# EAGLE library part BM78 (library KW2)
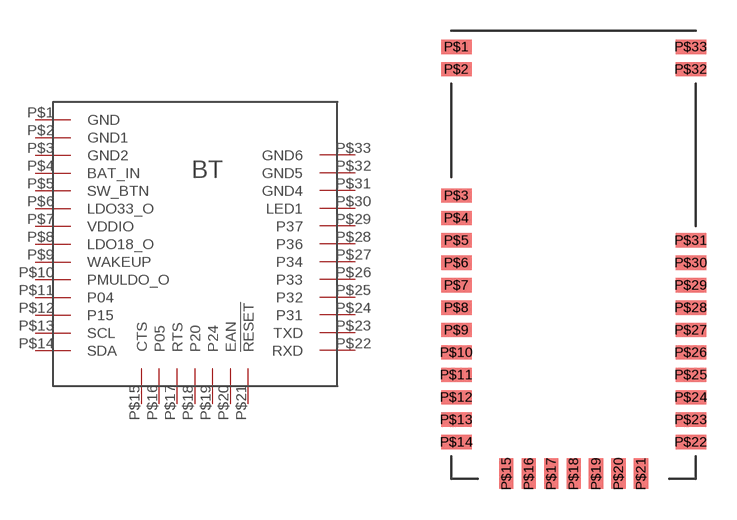
[diagram p22: symbol with the pads of BM78; footprint BM78]

Designator prefix U

## BM78  [BM78]
P$1  GND
P$2  GND1
P$3  GND2
P$4  BAT_IN
P$5  SW_BTN
P$6  LDO33_O
P$7  VDDIO
P$8  LDO18_O
P$9  WAKEUP
P$10  PMULDO_O
P$11  P04
P$12  P15
P$13  SCL
P$14  SDA
P$15  CTS
P$16  P05
P$17  RTS
P$18  P20
P$19  P24
P$20  EAN
P$21  !RESET
P$22  RXD
P$23  TXD
P$24  P31
P$25  P32
P$26  P33
P$27  P34
P$28  P36
P$29  P37
P$30  LED1
P$31  GND4
P$32  GND5
P$33  GND6

## Footprint BM78 (pad centres in mm)
smd 1.5 x 0.7: P$1 -5.75,21.2; P$2 -5.75,20.1; P$3 -5.75,13.9; P$4 -5.75,12.8; P$5 -5.75,11.7; P$6 -5.75,10.6; P$7 -5.75,9.5; P$8 -5.75,8.4; P$9 -5.75,7.3; P$10 -5.75,6.2; P$11 -5.75,5.1; P$12 -5.75,4; P$13 -5.75,2.9; P$14 -5.75,1.8; P$22 5.75,1.8; P$23 5.75,2.9; P$24 5.75,4; P$25 5.75,5.1; P$26 5.75,6.2; P$27 5.75,7.3; P$28 5.75,8.4; P$29 5.75,9.5; P$30 5.75,10.6; P$31 5.75,11.7; P$32 5.75,20.1; P$33 5.75,21.2
smd 0.7 x 1.5: P$15 -3.3,0.25; P$16 -2.2,0.25; P$17 -1.1,0.25; P$18 0,0.25; P$19 1.1,0.25; P$20 2.2,0.25; P$21 3.3,0.25